# Altium footprint library main.PcbLib: 24 footprints (part 1 of 2)
Each footprint in its own frame and in the unit in brackets; x right, y up, seen from the top. Pads: shape width x height; smd on the part's side, far side on the other; paste and mask are expansions set on the pad; w line width, h text height; cw(c..) or ccw(c..) is an arc to the next point about the centre after c.
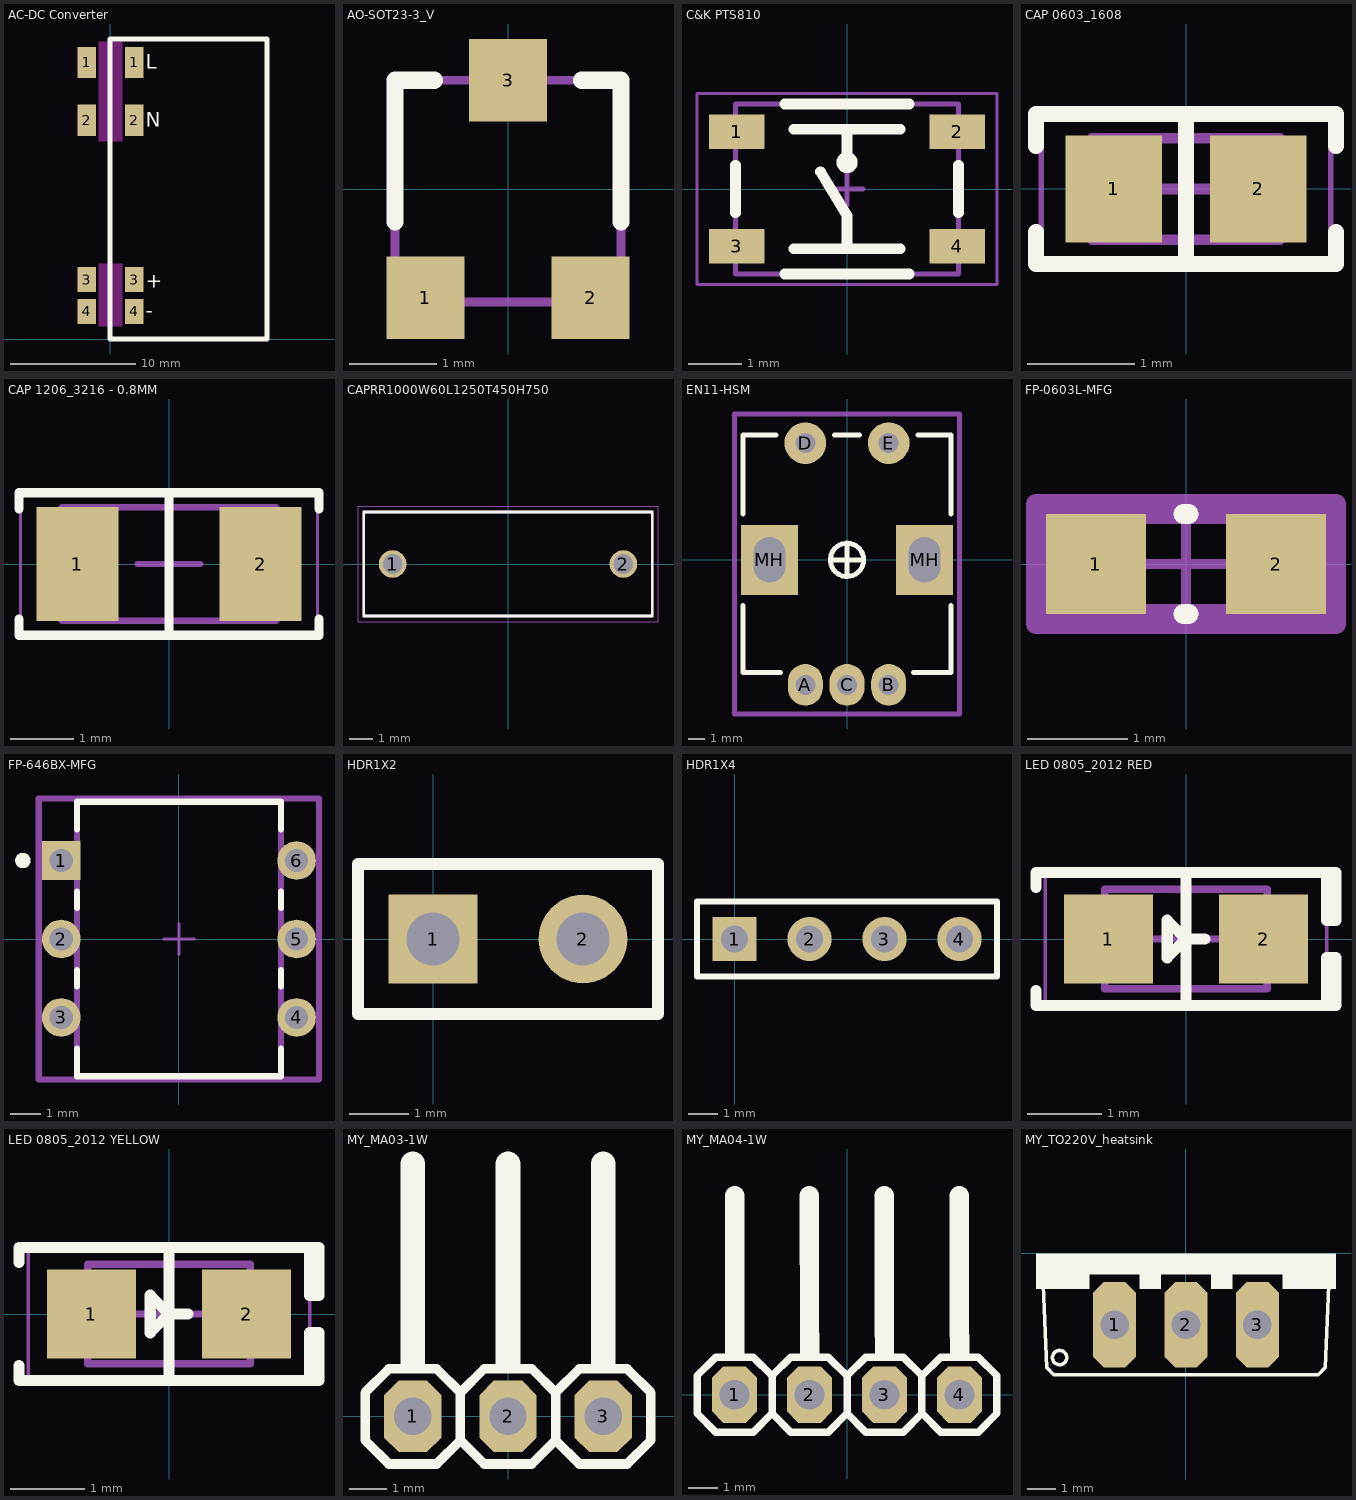
[diagram p0: the footprints below, top view; thin cyan lines are the x and y axes]

## AC-DC Converter [mm]
pads (8):
  rect 1.5x2.5 smd: 1(-1.9,22.125) 1(1.9,22.125) 2(-1.9,17.5) 2(1.9,17.5)
  rect 1.5x2 smd: 3(-1.9,4.75) 3(1.9,4.75) 4(-1.9,2.2) 4(1.9,2.2)
Top Overlay:
  lines w0.4: -0.025,0 12.525,0 12.525,24 -0.025,24 -0.025,0
  text "-" at 2.832,1.325 h2
  text "N" at 2.832,16.575 h2
  text "L" at 2.832,21.2 h2
  text "+" at 2.832,3.711 h2
Keep-Out Layer:
  board cut-out: -0.937,6 -0.937,1 0.938,1 0.938,6
  board cut-out: -0.925,23.8 -0.925,15.8 0.95,15.8 0.95,23.8
3D body "User Library-WX DC.step": height 17.05, standoff -1.1, extent -1.795,0.2 11.695,23.7

## AO-SOT23-3_V [mm]
pads (3):
  rect 0.9x0.95 smd: 1(-0.95,-1.25) 2(0.95,-1.25) 3(0,1.25)
Top Overlay:
  lines w0.2: -1.3,-0.375 -1.3,1.25 -0.85,1.25 ; 0.85,1.25 1.3,1.25 1.3,-0.375
Mechanical 7:
  rectangle: -0.3,1.25 0.3,1.5
  region: -0.625,-1.275 -1.225,-1.275 -1.225,-1.525 -0.625,-1.525
  region: 1.225,-1.275 0.625,-1.275 0.625,-1.525 1.225,-1.525
  lines w0.1: -1.3,-1.3 -1.3,1.25 1.3,1.25 1.3,-1.3 -1.3,-1.3
3D body: height 0.13, standoff 0, extent -0.239,0.651 0.268,1.362
3D body: height 0.13, standoff 0, extent 0.663,-1.254 1.17,-0.543
3D body: height 1.25, standoff 0, extent -1.142,-0.543 1.171,0.651
3D body: height 0.13, standoff 0, extent -1.115,-1.254 -0.608,-0.543

## C&K PTS810 [mm]
pads (4):
  rect 1.05x0.65 smd mask+0.1: 1(-2.075,1.075) 2(2.075,1.075) 3(-2.075,-1.075) 4(2.075,-1.075)
Top Overlay:
  circle w0.2: c0,0.5 r0.1
  lines w0.2: -2.1,-0.45 -2.1,0.45 ; -1.175,-1.6 1.175,-1.6 ; -1.175,1.6 1.175,1.6 ; -1,-1.125 1,-1.125 ; -1,1.125 1,1.125 ; -0.5,0.325 0,-0.5 0,-1.125 ; 0,0.5 0,1.125 ; 2.1,-0.45 2.1,0.45
Mechanical 13:
  lines w0.1: -2.1,-1.6 2.1,-1.6 2.1,1.6 -2.1,1.6 -2.1,-1.6
Mechanical 15:
  lines w0.05: -2.825,-1.8 2.825,-1.8 2.825,1.8 -2.825,1.8 -2.825,-1.8
  lines w0.1: -0.3,0 0.3,0 ; 0,-0.3 0,0.3
3D body "C&K - PTS810.step": height 2.7, standoff 0, extent -2.287,-1.6 2.288,1.6

## CAP 0603_1608 [mm]
pads (2):
  rect 0.9x1 smd: 1(-0.675,0) 2(0.675,0)
Top Overlay:
  lines w0.15: -1.4,-0.4 -1.4,-0.7 1.4,-0.7 1.4,-0.4 ; -1.4,0.4 -1.4,0.7 1.4,0.7 1.4,0.4 ; 0,-0.7 0,0.7
Mechanical 13:
  lines w0.1: -0.875,-0.475 -0.875,0.475 0.875,0.475 0.875,-0.475 -0.875,-0.475
Mechanical 15:
  lines w0.05: -1.35,-0.75 -1.35,0.75 1.35,0.75 1.35,-0.75 -1.35,-0.75
  lines w0.1: -0.475,0 0.475,0 ; 0,-0.475 0,0.475
3D body "0603 cap.STEP": height 0.82, standoff 0, extent -0.8,-0.412 0.8,0.412

## CAP 1206_3216 - 0.8MM [mm]
pads (2):
  rect 1.3x1.8 smd: 1(-1.45,0) 2(1.45,0)
Top Overlay:
  lines w0.15: -2.375,-0.875 -2.375,-1.125 2.375,-1.125 2.375,-0.875 ; -2.375,0.875 -2.375,1.125 2.375,1.125 2.375,0.875 ; 0,-1.125 0,1.125
Mechanical 13:
  lines w0.1: -1.7,-0.9 -1.7,0.9 1.7,0.9 1.7,-0.9 -1.7,-0.9
Mechanical 15:
  lines w0.05: -2.35,-1.15 -2.35,1.15 2.35,1.15 2.35,-1.15 -2.35,-1.15
  lines w0.1: -0.5,0 0.5,0 ; 0,-0.5 0,0.5
3D body "CAP 1206-0.8mm.STEP": height 0.8, standoff 0, extent -1.6,-0.8 1.6,0.8

## CAPRR1000W60L1250T450H750 [mm]
pads (2):
  round 1.2 hole 0.85: 1(-5,0) 2(5,0)
Top Overlay:
  lines w0.127: -6.25,-2.25 6.25,-2.25 6.25,2.25 -6.25,2.25 -6.25,-2.25
Mechanical 13:
  lines w0.127: -6.25,-2.25 -6.25,2.25 6.25,2.25 6.25,-2.25 -6.25,-2.25
Mechanical 15:
  lines w0.05: -6.5,-2.5 -6.5,2.5 6.5,2.5 6.5,-2.5 -6.5,-2.5
3D body "step_temp.STEP": height 8.5, standoff -19, extent -6.25,-2.25 6.25,2.25

## EN11-HSM [mm]
pads (7):
  oval 2.1x2.5 hole 1.2: A(-2.5,-7.5) B(2.5,-7.5) C(0,-7.5)
  round 2.5 hole 1.2: D(-2.5,7) E(2.5,7)
  rect 3.4x4.2 hole 1.9 slot 2.7 at 90 deg: MH(-4.65,0) MH(4.65,0)
Top Overlay:
  circle w0.3: c0,0 r1
  lines w0.3: -6.25,-2.75 -6.25,-6.75 -4,-6.75 ; -6.25,2.75 -6.25,7.5 -4.25,7.5 ; -1,0 1,0 ; -0.75,7.5 0.75,7.5 ; 0,-1 0,1 ; 4,-6.75 6.25,-6.75 6.25,-2.75 ; 4.25,7.5 6.25,7.5 6.25,2.75
Mechanical 13:
  lines w0.3: -6.75,-9.25 -6.75,8.75 6.75,8.75 6.75,-9.25 -6.75,-9.25
  text "'.Designator'" at -5.665,-0.417 h1
3D body "EN11-HSM1AF15.STEP": height 21.65, standoff -3.45, extent -5.85,-7.625 5.85,7.25

## FP-0603L-MFG [mm]
pads (2):
  rect 1x1 smd paste+0 mask+0: 1(-0.9,0) 2(0.9,0)
Top Overlay:
  lines w0.2: -0.025,-0.5 0.025,-0.5 ; -0.025,0.5 0.025,0.5
Top 3D Body:
  lines w0.2: -0.9,-0.5 -0.9,0.5 0.9,0.5 0.9,-0.5 -0.9,-0.5
Top Courtyard:
  lines w0.2: -1.5,-0.6 -1.5,0.6 1.5,0.6 1.5,-0.6 -1.5,-0.6
Top Assembly:
  lines w0.2: -1.5,-0.6 -1.5,0.6 1.5,0.6 1.5,-0.6 -1.5,-0.6
  text ".Designator" at 0,0.188 h1
Top Component Center:
  lines w0.1: -0.5,0 0.5,0 ; 0,-0.5 0,0.5
3D body "Fuse_Littelfuse_Inc_0603L010YR_eec.STEP": height 0.25, standoff 0, extent -1.5,-0.6 1.5,0.6

## FP-646BX-MFG [mm]
pads (6):
  rect 1.25x1.25 hole 0.75 paste-1000 mask+0: 1(-3.81,2.54)
  round 1.25 hole 0.75 paste-1000 mask+0: 2(-3.81,0) 3(-3.81,-2.54) 4(3.81,-2.54) 5(3.81,0) 6(3.81,2.54)
Top Overlay:
  circle w0.25: c-5.05,2.54 r0.125
  lines w0.2: -3.3,-3.54 -3.3,-4.445 3.3,-4.445 3.3,-3.54 ; -3.3,-1.54 -3.3,-1 ; -3.3,1 -3.3,1.54 ; -3.3,3.54 -3.3,4.445 3.3,4.445 3.3,3.54 ; 3.3,-1.54 3.3,-1 ; 3.3,1 3.3,1.54
Top 3D Body:
  lines w0.2: -3.3,-4.445 -3.3,4.445 3.3,4.445 3.3,-4.445 -3.3,-4.445
Top Courtyard:
  lines w0.2: -4.535,-4.545 -4.535,4.545 4.535,4.545 4.535,-4.545 -4.535,-4.545
Top Assembly:
  lines w0.2: -4.535,-4.545 -4.535,4.545 4.535,4.545 4.535,-4.545 -4.535,-4.545
Top Component Center:
  lines w0.1: -0.5,0 0.5,0 ; 0,-0.5 0,0.5
3D body "Trans_ON_Semiconductor_MOC3041M_eec.STEP": height 0.25, standoff 0, extent -4.535,-4.545 4.535,4.545

## HDR1X2 [mm]
pads (2):
  rect 1.5x1.5 hole 0.9: 1(0,0)
  round 1.5 hole 0.9: 2(2.54,0)
Top Overlay:
  lines w0.2: -1.27,-1.27 3.81,-1.27 3.81,1.27 -1.27,1.27 -1.27,-1.27

## HDR1X4 [mm]
pads (4):
  rect 1.5x1.5 hole 0.9: 1(0,0)
  round 1.5 hole 0.9: 2(2.54,0) 3(5.08,0) 4(7.62,0)
Top Overlay:
  lines w0.2: -1.27,-1.27 -1.27,1.27 8.89,1.27 8.89,-1.27 -1.27,-1.27

## LED 0805_2012 RED [mm]
pads (2):
  rect 1.2x1.2 smd: 1(-1.05,0) 2(1.05,0)
Top Overlay:
  lines w0.15: -2.032,-0.7 -2.032,-0.9 1.905,-0.9 ; -2.032,0.7 -2.032,0.9 1.905,0.9 ; 0,-0.9 0,0.9 ; 0.254,0 0,0 ; 0,0 -0.254,0.254 -0.254,-0.254 0,0 ; 1.905,-0.9 2.032,-0.9 2.032,-0.254 1.905,-0.254 1.905,-0.9 ; 1.905,0.9 2.032,0.9 2.032,0.254 1.905,0.254 1.905,0.9
Mechanical 13:
  lines w0.1: -1.1,-0.675 -1.1,0.675 1.1,0.675 1.1,-0.675 -1.1,-0.675
Mechanical 15:
  lines w0.05: -1.905,-0.95 -1.905,0.95 1.905,0.95 1.905,-0.95 -1.905,-0.95
  lines w0.1: -0.5,0 0.5,0 ; 0,-0.5 0,0.5
3D body "LED 0805 Lens RED.STEP": height 0.9, standoff 0.3, extent -0.65,-0.625 0.65,0.625
3D body "LED 0805 Base RED.STEP": height 0.4, standoff 0, extent -1,-0.625 1,0.625

## LED 0805_2012 YELLOW [mm]
pads (2):
  rect 1.2x1.2 smd: 1(-1.05,0) 2(1.05,0)
Top Overlay:
  lines w0.15: -2.032,-0.7 -2.032,-0.9 1.905,-0.9 ; -2.032,0.7 -2.032,0.9 1.905,0.9 ; 0,-0.9 0,0.9 ; 0.254,0 0,0 ; 0,0 -0.254,0.254 -0.254,-0.254 0,0 ; 1.905,-0.9 1.905,-0.254 2.032,-0.254 2.032,-0.9 1.905,-0.9 ; 1.905,0.9 1.905,0.254 2.032,0.254 2.032,0.9 1.905,0.9
Mechanical 13:
  lines w0.1: -1.1,-0.675 1.1,-0.675 1.1,0.675 -1.1,0.675 -1.1,-0.675
Mechanical 15:
  lines w0.05: -1.905,-0.95 1.905,-0.95 1.905,0.95 -1.905,0.95 -1.905,-0.95
  lines w0.1: -0.5,0 0.5,0 ; 0,-0.5 0,0.5
3D body "LED 0805 Base YELLOW.STEP": height 0.4, standoff 0, extent -1,-0.625 1,0.625
3D body "LED 0805 Lens YELLOW.STEP": height 0.9, standoff 0.3, extent -0.65,-0.625 0.65,0.625

## MY_MA03-1W [mm]
pads (3):
  oct 1.524x1.905 hole 1: 1(-2.54,0) 2(0,0) 3(2.54,0)
Top Overlay:
  rectangle: 2.21,1.27 2.871,2.032
  rectangle: -0.33,1.27 0.33,2.032
  rectangle: -2.87,1.27 -2.21,2.032
  lines w0.254: -1.27,-0.635 -0.635,-1.27 0.635,-1.27 1.27,-0.635 ; -1.27,-0.635 -1.905,-1.27 -3.175,-1.27 -3.81,-0.635 -3.81,0.635 -3.175,1.27 -1.905,1.27 -1.27,0.635 ; -1.27,-0.635 -1.27,0.635 ; -1.27,0.635 -0.635,1.27 0.635,1.27 1.27,0.635 ; 1.27,-0.635 1.905,-1.27 3.175,-1.27 3.81,-0.635 3.81,0.635 3.175,1.27 1.905,1.27 1.27,0.635 ; 1.27,-0.635 1.27,0.635
  lines w0.66: -2.54,2.032 -2.54,6.731 ; 0,2.032 0,6.731 ; 2.54,2.032 2.54,6.731
3D body "SW3dPS-0.1inch pin strip right angle.STEP": height 4.33, standoff -3, extent -3.81,-1.27 3.81,7

## MY_MA04-1W [mm]
pads (4):
  oct 1.524x1.905 hole 1: 1(-3.81,0) 2(-1.27,0) 3(1.27,0) 4(3.81,0)
Top Overlay:
  rectangle: -4.14,1.269 -3.48,2.031
  rectangle: -1.6,1.269 -0.94,2.031
  rectangle: 0.94,1.269 1.6,2.031
  rectangle: 3.48,1.269 4.14,2.031
  lines w0.254: -2.54,-0.635 -2.54,0.635 ; -2.54,-0.635 -3.175,-1.27 -4.445,-1.27 -5.08,-0.635 -5.08,0.635 -4.445,1.27 -3.175,1.27 -2.54,0.635 ; -2.54,-0.635 -1.905,-1.27 -0.635,-1.27 0,-0.635 ; -2.54,0.635 -1.905,1.27 -0.635,1.27 0,0.635 ; 0,-0.635 0,0.635 ; 0,-0.635 0.635,-1.27 1.905,-1.27 2.54,-0.635 ; 0,0.635 0.635,1.27 1.905,1.27 2.54,0.635 ; 2.54,-0.635 2.54,0.635 ; 2.54,-0.635 3.175,-1.27 4.445,-1.27 5.08,-0.635 5.08,0.635 4.445,1.27 3.175,1.27 2.54,0.635
  lines w0.66: -3.81,2.032 -3.81,6.731 ; -1.27,2.032 -1.27,6.731 ; 1.27,2.032 1.27,6.731 ; 3.81,2.032 3.81,6.731
3D body "SW3dPS-0.1inch pin strip right angle.STEP": height 4.33, standoff -3, extent -5.08,-1.27 5.08,7

## MY_TO220V_heatsink [mil]
pads (3):
  oct 60x120 hole 40: 1(-100,-100) 2(0,-100) 3(100,-100)
Top Overlay:
  circle w5: c-177,-146 r10
  rectangle: 135.01,-50 210.01,-30
  rectangle: 35.01,-50 65.01,-30
  rectangle: -64.99,-50 -34.99,-30
  rectangle: -210,-50.01 -135,-30.01
  rectangle: -209.99,-30.01 210.01,-0.01
  lines w5: -200,-45 -195,-160 -185,-170 185,-170 195,-160 200,-45
3D body "to220_with heatsink.STEP": height 806.34, standoff -214.6, extent -335.88,-326.84 333.41,75.52